# Altium footprint library TM4C129ENCPDT.PcbLib: 3 footprints
Each footprint in its own frame and in the unit in brackets; x right, y up, seen from the top. Pads: shape width x height; smd on the part's side, far side on the other; paste and mask are expansions set on the pad; w line width, h text height; cw(c..) or ccw(c..) is an arc to the next point about the centre after c.
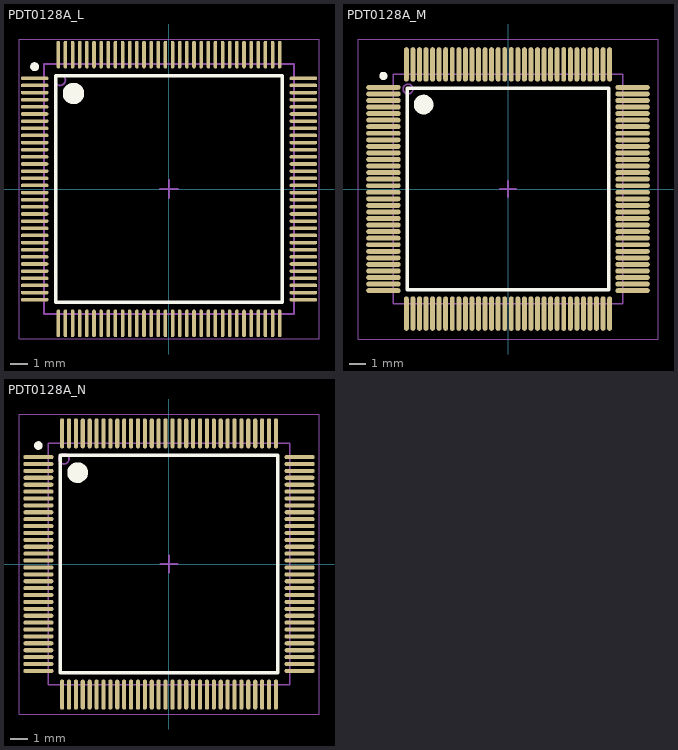
[diagram p0: the footprints below, top view; thin cyan lines are the x and y axes]

## PDT0128A_L [mm]
pads (128):
  oval 1.55x0.2 smd paste-0.762 mask+0.051: 1(-7.525,6.2) 2(-7.525,5.8) 3(-7.525,5.4) 4(-7.525,5) 5(-7.525,4.6) 6(-7.525,4.2) 7(-7.525,3.8) 8(-7.525,3.4) 9(-7.525,3) 10(-7.525,2.6) 11(-7.525,2.2) 12(-7.525,1.8) 13(-7.525,1.4) 14(-7.525,1) 15(-7.525,0.6) 16(-7.525,0.2) 17(-7.525,-0.2) 18(-7.525,-0.6) 19(-7.525,-1) 20(-7.525,-1.4) 21(-7.525,-1.8) 22(-7.525,-2.2) 23(-7.525,-2.6) 24(-7.525,-3) 25(-7.525,-3.4) 26(-7.525,-3.8) 27(-7.525,-4.2) 28(-7.525,-4.6) 29(-7.525,-5) 30(-7.525,-5.4) 31(-7.525,-5.8) 32(-7.525,-6.2) 65(7.525,-6.2) 66(7.525,-5.8) 67(7.525,-5.4) 68(7.525,-5) 69(7.525,-4.6) 70(7.525,-4.2) 71(7.525,-3.8) 72(7.525,-3.4) 73(7.525,-3) 74(7.525,-2.6) 75(7.525,-2.2) 76(7.525,-1.8) 77(7.525,-1.4) 78(7.525,-1) 79(7.525,-0.6) 80(7.525,-0.2) 81(7.525,0.2) 82(7.525,0.6) 83(7.525,1) 84(7.525,1.4) 85(7.525,1.8) 86(7.525,2.2) 87(7.525,2.6) 88(7.525,3) 89(7.525,3.4) 90(7.525,3.8) 91(7.525,4.2) 92(7.525,4.6) 93(7.525,5) 94(7.525,5.4) 95(7.525,5.8) 96(7.525,6.2)
  oval 0.2x1.55 smd paste-0.762 mask+0.051: 33(-6.2,-7.525) 34(-5.8,-7.525) 35(-5.4,-7.525) 36(-5,-7.525) 37(-4.6,-7.525) 38(-4.2,-7.525) 39(-3.8,-7.525) 40(-3.4,-7.525) 41(-3,-7.525) 42(-2.6,-7.525) 43(-2.2,-7.525) 44(-1.8,-7.525) 45(-1.4,-7.525) 46(-1,-7.525) 47(-0.6,-7.525) 48(-0.2,-7.525) 49(0.2,-7.525) 50(0.6,-7.525) 51(1,-7.525) 52(1.4,-7.525) 53(1.8,-7.525) 54(2.2,-7.525) 55(2.6,-7.525) 56(3,-7.525) 57(3.4,-7.525) 58(3.8,-7.525) 59(4.2,-7.525) 60(4.6,-7.525) 61(5,-7.525) 62(5.4,-7.525) 63(5.8,-7.525) 64(6.2,-7.525) 97(6.2,7.525) 98(5.8,7.525) 99(5.4,7.525) 100(5,7.525) 101(4.6,7.525) 102(4.2,7.525) 103(3.8,7.525) 104(3.4,7.525) 105(3,7.525) 106(2.6,7.525) 107(2.2,7.525) 108(1.8,7.525) 109(1.4,7.525) 110(1,7.525) 111(0.6,7.525) 112(0.2,7.525) 113(-0.2,7.525) 114(-0.6,7.525) 115(-1,7.525) 116(-1.4,7.525) 117(-1.8,7.525) 118(-2.2,7.525) 119(-2.6,7.525) 120(-3,7.525) 121(-3.4,7.525) 122(-3.8,7.525) 123(-4.2,7.525) 124(-4.6,7.525) 125(-5,7.525) 126(-5.4,7.525) 127(-5.8,7.525) 128(-6.2,7.525)
Top Overlay:
  circle w0.6: c-5.35,5.35 r0.3
  circle w0.25: c-7.525,6.85 r0.125
  lines w0.2: -6.35,-6.35 6.35,-6.35 6.35,6.35 -6.35,6.35 -6.35,-6.35
Mechanical 13:
  circle w0.1: c-6.1,6.1 r0.3
  lines w0.1: -7,-7 7,-7 7,7 -7,7 -7,-7
Mechanical 15:
  lines w0.05: -8.4,-8.4 8.4,-8.4 8.4,8.4 -8.4,8.4 -8.4,-8.4
  lines w0.1: -0.5,0 0.5,0 ; 0,-0.5 0,0.5
3D body "PDT0128A.stp": height 1.05, standoff -0.02, extent -8,-8 8,8

## PDT0128A_M [mm]
pads (128):
  oval 2.1x0.3 smd paste-0.102 mask+0.051: 1(-7.6,6.2) 2(-7.6,5.8) 3(-7.6,5.4) 4(-7.6,5) 5(-7.6,4.6) 6(-7.6,4.2) 7(-7.6,3.8) 8(-7.6,3.4) 9(-7.6,3) 10(-7.6,2.6) 11(-7.6,2.2) 12(-7.6,1.8) 13(-7.6,1.4) 14(-7.6,1) 15(-7.6,0.6) 16(-7.6,0.2) 17(-7.6,-0.2) 18(-7.6,-0.6) 19(-7.6,-1) 20(-7.6,-1.4) 21(-7.6,-1.8) 22(-7.6,-2.2) 23(-7.6,-2.6) 24(-7.6,-3) 25(-7.6,-3.4) 26(-7.6,-3.8) 27(-7.6,-4.2) 28(-7.6,-4.6) 29(-7.6,-5) 30(-7.6,-5.4) 31(-7.6,-5.8) 32(-7.6,-6.2) 65(7.6,-6.2) 66(7.6,-5.8) 67(7.6,-5.4) 68(7.6,-5) 69(7.6,-4.6) 70(7.6,-4.2) 71(7.6,-3.8) 72(7.6,-3.4) 73(7.6,-3) 74(7.6,-2.6) 75(7.6,-2.2) 76(7.6,-1.8) 77(7.6,-1.4) 78(7.6,-1) 79(7.6,-0.6) 80(7.6,-0.2) 81(7.6,0.2) 82(7.6,0.6) 83(7.6,1) 84(7.6,1.4) 85(7.6,1.8) 86(7.6,2.2) 87(7.6,2.6) 88(7.6,3) 89(7.6,3.4) 90(7.6,3.8) 91(7.6,4.2) 92(7.6,4.6) 93(7.6,5) 94(7.6,5.4) 95(7.6,5.8) 96(7.6,6.2)
  oval 0.3x2.1 smd paste-0.102 mask+0.051: 33(-6.2,-7.6) 34(-5.8,-7.6) 35(-5.4,-7.6) 36(-5,-7.6) 37(-4.6,-7.6) 38(-4.2,-7.6) 39(-3.8,-7.6) 40(-3.4,-7.6) 41(-3,-7.6) 42(-2.6,-7.6) 43(-2.2,-7.6) 44(-1.8,-7.6) 45(-1.4,-7.6) 46(-1,-7.6) 47(-0.6,-7.6) 48(-0.2,-7.6) 49(0.2,-7.6) 50(0.6,-7.6) 51(1,-7.6) 52(1.4,-7.6) 53(1.8,-7.6) 54(2.2,-7.6) 55(2.6,-7.6) 56(3,-7.6) 57(3.4,-7.6) 58(3.8,-7.6) 59(4.2,-7.6) 60(4.6,-7.6) 61(5,-7.6) 62(5.4,-7.6) 63(5.8,-7.6) 64(6.2,-7.6) 97(6.2,7.6) 98(5.8,7.6) 99(5.4,7.6) 100(5,7.6) 101(4.6,7.6) 102(4.2,7.6) 103(3.8,7.6) 104(3.4,7.6) 105(3,7.6) 106(2.6,7.6) 107(2.2,7.6) 108(1.8,7.6) 109(1.4,7.6) 110(1,7.6) 111(0.6,7.6) 112(0.2,7.6) 113(-0.2,7.6) 114(-0.6,7.6) 115(-1,7.6) 116(-1.4,7.6) 117(-1.8,7.6) 118(-2.2,7.6) 119(-2.6,7.6) 120(-3,7.6) 121(-3.4,7.6) 122(-3.8,7.6) 123(-4.2,7.6) 124(-4.6,7.6) 125(-5,7.6) 126(-5.4,7.6) 127(-5.8,7.6) 128(-6.2,7.6)
Top Overlay:
  circle w0.25: c-7.6,6.9 r0.125
  circle w0.6: c-5.15,5.15 r0.3
  lines w0.2: -6.15,-6.15 -6.15,6.15 6.15,6.15 6.15,-6.15 -6.15,-6.15
Mechanical 13:
  circle w0.1: c-6.1,6.1 r0.3
  lines w0.1: -7,-7 -7,7 7,7 7,-7 -7,-7
Mechanical 15:
  lines w0.05: -9.15,-9.15 -9.15,9.15 9.15,9.15 9.15,-9.15 -9.15,-9.15
  lines w0.1: -0.5,0 0.5,0 ; 0,-0.5 0,0.5
3D body "PDT0128A.stp": height 1.05, standoff -0.02, extent -8,-8 8,8

## PDT0128A_N [mm]
pads (128):
  oval 1.75x0.24 smd paste-0.102 mask+0.051: 1(-7.575,6.2) 2(-7.575,5.8) 3(-7.575,5.4) 4(-7.575,5) 5(-7.575,4.6) 6(-7.575,4.2) 7(-7.575,3.8) 8(-7.575,3.4) 9(-7.575,3) 10(-7.575,2.6) 11(-7.575,2.2) 12(-7.575,1.8) 13(-7.575,1.4) 14(-7.575,1) 15(-7.575,0.6) 16(-7.575,0.2) 17(-7.575,-0.2) 18(-7.575,-0.6) 19(-7.575,-1) 20(-7.575,-1.4) 21(-7.575,-1.8) 22(-7.575,-2.2) 23(-7.575,-2.6) 24(-7.575,-3) 25(-7.575,-3.4) 26(-7.575,-3.8) 27(-7.575,-4.2) 28(-7.575,-4.6) 29(-7.575,-5) 30(-7.575,-5.4) 31(-7.575,-5.8) 32(-7.575,-6.2) 65(7.575,-6.2) 66(7.575,-5.8) 67(7.575,-5.4) 68(7.575,-5) 69(7.575,-4.6) 70(7.575,-4.2) 71(7.575,-3.8) 72(7.575,-3.4) 73(7.575,-3) 74(7.575,-2.6) 75(7.575,-2.2) 76(7.575,-1.8) 77(7.575,-1.4) 78(7.575,-1) 79(7.575,-0.6) 80(7.575,-0.2) 81(7.575,0.2) 82(7.575,0.6) 83(7.575,1) 84(7.575,1.4) 85(7.575,1.8) 86(7.575,2.2) 87(7.575,2.6) 88(7.575,3) 89(7.575,3.4) 90(7.575,3.8) 91(7.575,4.2) 92(7.575,4.6) 93(7.575,5) 94(7.575,5.4) 95(7.575,5.8) 96(7.575,6.2)
  oval 0.24x1.75 smd paste-0.102 mask+0.051: 33(-6.2,-7.575) 34(-5.8,-7.575) 35(-5.4,-7.575) 36(-5,-7.575) 37(-4.6,-7.575) 38(-4.2,-7.575) 39(-3.8,-7.575) 40(-3.4,-7.575) 41(-3,-7.575) 42(-2.6,-7.575) 43(-2.2,-7.575) 44(-1.8,-7.575) 45(-1.4,-7.575) 46(-1,-7.575) 47(-0.6,-7.575) 48(-0.2,-7.575) 49(0.2,-7.575) 50(0.6,-7.575) 51(1,-7.575) 52(1.4,-7.575) 53(1.8,-7.575) 54(2.2,-7.575) 55(2.6,-7.575) 56(3,-7.575) 57(3.4,-7.575) 58(3.8,-7.575) 59(4.2,-7.575) 60(4.6,-7.575) 61(5,-7.575) 62(5.4,-7.575) 63(5.8,-7.575) 64(6.2,-7.575) 97(6.2,7.575) 98(5.8,7.575) 99(5.4,7.575) 100(5,7.575) 101(4.6,7.575) 102(4.2,7.575) 103(3.8,7.575) 104(3.4,7.575) 105(3,7.575) 106(2.6,7.575) 107(2.2,7.575) 108(1.8,7.575) 109(1.4,7.575) 110(1,7.575) 111(0.6,7.575) 112(0.2,7.575) 113(-0.2,7.575) 114(-0.6,7.575) 115(-1,7.575) 116(-1.4,7.575) 117(-1.8,7.575) 118(-2.2,7.575) 119(-2.6,7.575) 120(-3,7.575) 121(-3.4,7.575) 122(-3.8,7.575) 123(-4.2,7.575) 124(-4.6,7.575) 125(-5,7.575) 126(-5.4,7.575) 127(-5.8,7.575) 128(-6.2,7.575)
Top Overlay:
  circle w0.25: c-7.575,6.87 r0.125
  circle w0.6: c-5.3,5.3 r0.3
  lines w0.2: -6.3,-6.3 -6.3,6.3 6.3,6.3 6.3,-6.3 -6.3,-6.3
Mechanical 13:
  circle w0.1: c-6.1,6.1 r0.3
  lines w0.1: -7,-7 -7,7 7,7 7,-7 -7,-7
Mechanical 15:
  lines w0.05: -8.7,-8.7 -8.7,8.7 8.7,8.7 8.7,-8.7 -8.7,-8.7
  lines w0.1: -0.5,0 0.5,0 ; 0,-0.5 0,0.5
3D body "PDT0128A.stp": height 1.05, standoff -0.02, extent -8,-8 8,8